# Altium schematic symbol library WS2812.SchLib: 1 symbol
Pins are listed as number, name and electrical type; pins without a type are passive.

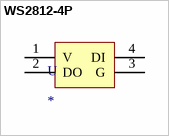
[diagram p0: symbol WS2812-4P]

## WS2812-4P
designator U
footprint WS2812-4P
pins: 1 V, 2 DO, 3 G, 4 DI